# Altium footprint library 1_to_5_Pin.PcbLib: 133 footprints (part 7 of 9)
Each footprint in its own frame and in the unit in brackets; x right, y up, seen from the top. Pads: shape width x height; smd on the part's side, far side on the other; paste and mask are expansions set on the pad; w line width, h text height; cw(c..) or ccw(c..) is an arc to the next point about the centre after c.
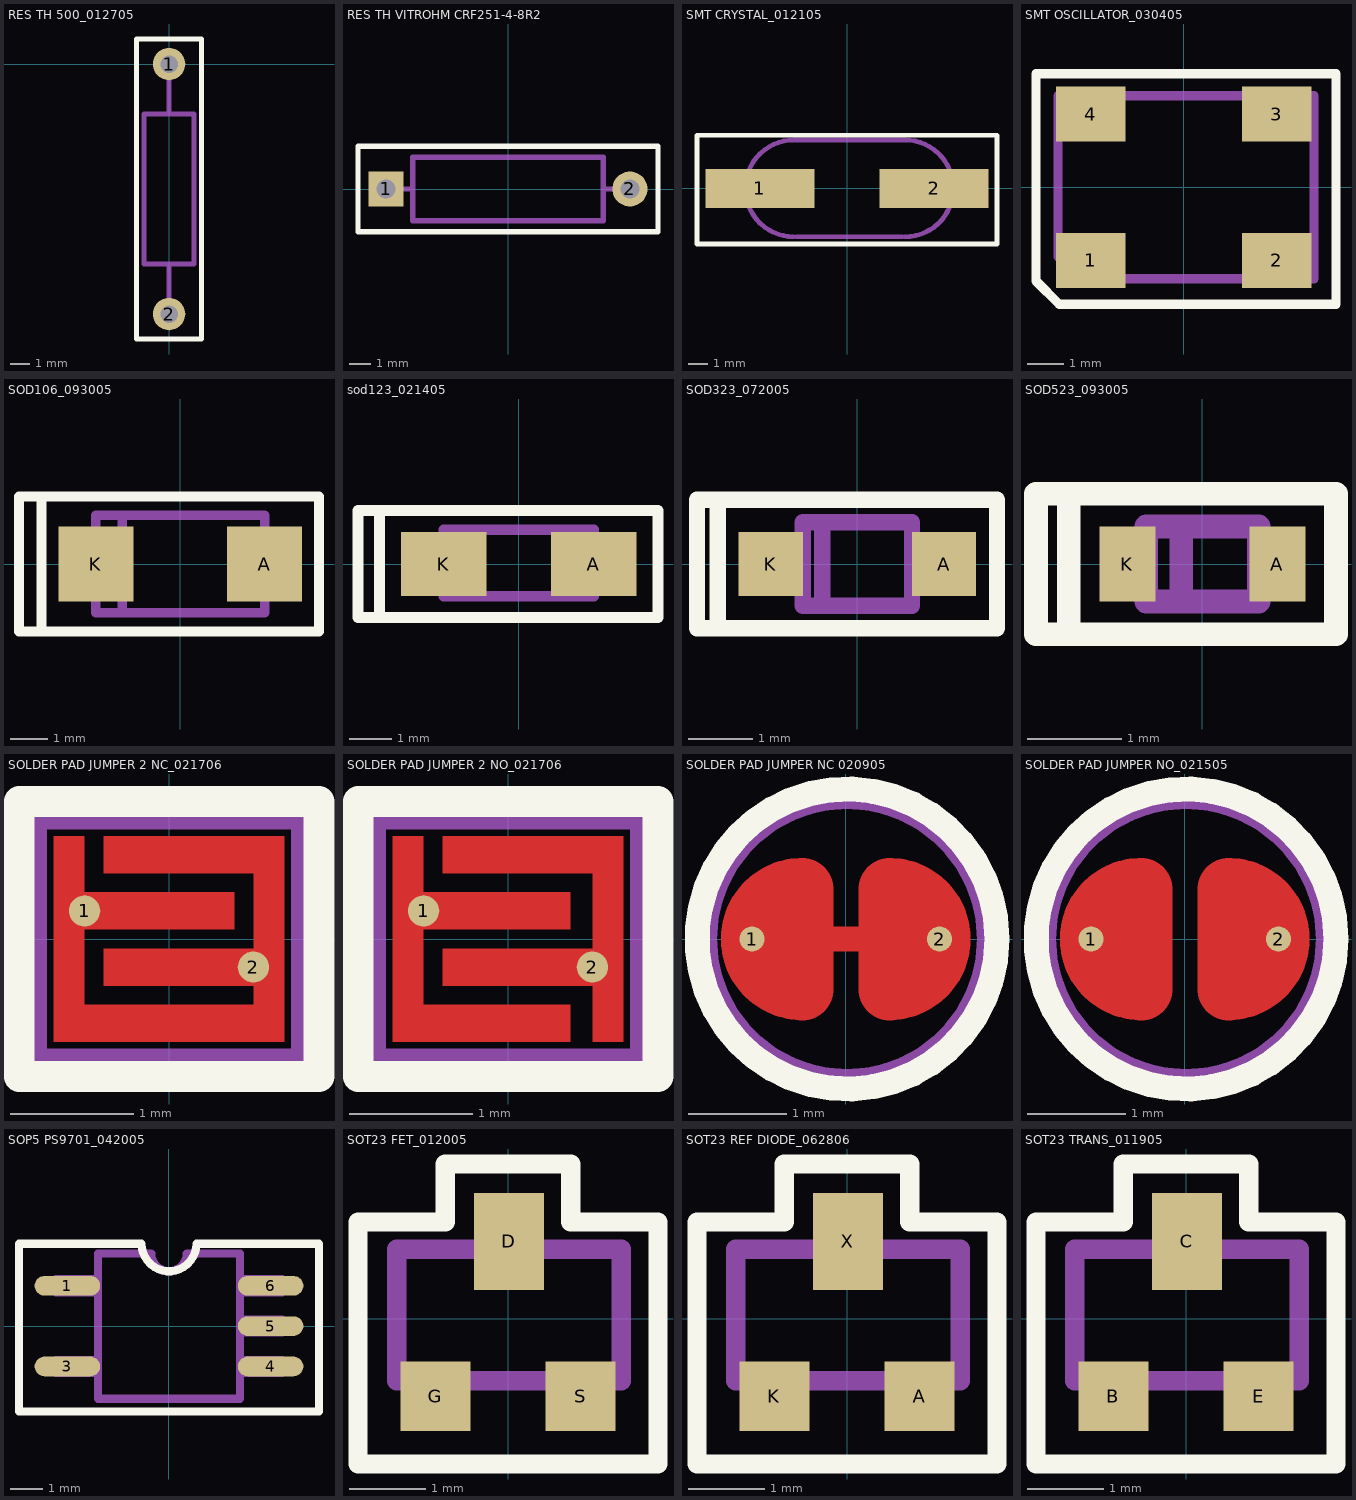
[diagram p6: the footprints below, top view; thin cyan lines are the x and y axes]

## RES TH 500_012705 [mil] "TH"
height 100
pads (2):
  round 65 hole 35: 1(0,0) 2(0,-500)
Top Overlay:
  lines w10: -65,-550 65,-550 65,50 0,50 -65,50 -65,-550
Assembly Outline:
  lines w10: 0,-500 0,-400 ; 0,-100 0,0 ; -50,-400 50,-400 50,-250 50,-100 -50,-100 -50,-400
Assembly Designator:
  text ".Designator" at -15,-219 h40
Assembly Comment:
  text ".Comment" at -108,-108 h40

## RES TH VITROHM CRF251-4-8R2 [mil] "TH"
height 118.11
pads (2):
  rect 65x65 hole 35: 1(-226.38,0)
  round 65 hole 35: 2(226.38,0)
Top Overlay:
  lines w10: -278.54,-79.72 0,-79.72 278.54,-79.72 278.54,0 278.54,79.72 0,79.72 -278.54,79.72 -278.54,0 -278.54,-79.72
Assembly Outline:
  lines w10: -226.38,0 -177.17,0 ; 0,59.06 177.17,59.06 177.17,0 ; 17.72,59.06 -177.17,59.06 -177.17,0 ; 226.38,0 177.17,0 ; -177.17,-59.05 0,-59.05 ; -177.17,-59.05 -177.17,0 ; -177.17,-59.05 0,-59.05 ; -177.17,-59.05 -177.17,0 ; 0,-59.05 177.17,-59.05 177.17,0
Assembly Designator:
  text ".Designator" at -53.15,-14.76 h40
Assembly Comment:
  text ".Comment" at -177.17,-132.87 h40

## SMT CRYSTAL_012105 [mil] "SMT"
height 160
pads (2):
  rect 225x80 smd: 1(-180,0) 2(180,0)
Top Overlay:
  lines w10: -310,-115 -310,110 310,110 310,-115 -310,-115
Assembly Outline:
  lines w10: -208,-25 -240,-25 -240,30 -206,30 ; -110,-100 cw(c-110,0) -110,100 120,100 cw(c120,0) 120,-100 ; -105,-100 115,-100 ; 216,30 250,30 250,-25 217,-25
Assembly Designator:
  text ".Designator" at -65,40 h40
Assembly Comment:
  text ".Comment" at -180,-20 h40

## SMT OSCILLATOR_030405 [mm] "SMT"
height 2.54
pads (4):
  rect 1.9x1.5 smd: 1(-2.54,-2) 2(2.54,-2) 3(2.54,2) 4(-2.54,2)
Top Overlay:
  lines w0.254: -4.04,-2.564 -4.04,3.1 4.16,3.1 4.16,-3.2 -3.404,-3.2 -4.04,-2.564
Assembly Outline:
  lines w0.254: -3.44,-1.894 -3.44,2.5 3.56,2.5 3.56,-2.5 -2.834,-2.5 -3.44,-1.894
Assembly Designator:
  text ".Designator" at -1.016,-0.381 h1.02
Assembly Comment:
  text ".Comment" at -2.794,-1.778 h1.02

## SOD106_093005 [mm] "SMT"
height 2
pads (2):
  rect 2x2 smd: A(2.25,0) K(-2.25,0)
Top Overlay:
  lines w0.254: -3.7,-1.8 -4.3,-1.8 -4.3,1.8 -3.7,1.8 ; -3.7,-1.8 -3.7,0 -3.7,1.8 ; -3.7,-1.8 0,-1.8 3.7,-1.8 3.7,0 3.7,1.8 0,1.8 -3.7,1.8
Assembly Outline:
  lines w0.254: -1.55,1.3 -1.55,-1.3 -1.05,-1.3 ; 2.25,0 2.25,1.3 ; 2.25,1.3 2.25,-1.3 -2.25,-1.3 -2.25,1.3 2.25,1.3
Assembly Designator:
  text ".Designator" at -0.55,-0.4 h1.02
Assembly Comment:
  text ".Comment" at -2.25,-3.3 h1.02

## sod123_021405 [mil] "SMT"
height 50
pads (2):
  rect 80x60 smd: A(70,0) K(-70,0)
Top Overlay:
  lines w10: -130,-50 -130,50 ; -150,-50 40,-50 130,-50 130,50 40,50 -150,50 -150,-50
Assembly Outline:
  lines w10: -40,-30 -40,32 ; -70,-30 70,-30 70,32 -70,32 -70,-30
Assembly Designator:
  text ".Designator" at -105,-15 h40
Assembly Comment:
  text ".Comment" at -117,-82 h40

## SOD323_072005 [mm] "SMT"
height 1.16
pads (2):
  rect 1x1 smd: A(1.35,0) K(-1.35,0)
Top Overlay:
  lines w0.254: -2.175,-1 0,-1 2.175,-1 2.175,0 2.175,1 0,1 -2.175,1 ; -2.175,-1 -2.175,0 -2.175,1 ; -2.175,-1 -2.5,-1 -2.5,1 -2.175,1
Assembly Outline:
  lines w0.254: -0.85,-0.2 -1.35,-0.2 -1.35,0 -1.35,0.2 -0.85,0.2 ; -0.55,-0.65 -0.55,0.65 ; 0,-0.65 -0.85,-0.65 ; 0.85,-0.2 1.35,-0.2 1.35,0 1.35,0.2 0.85,0.2 ; -0.85,-0.65 0.85,-0.65 0.85,0.65 -0.85,0.65 -0.85,-0.65
Assembly Designator:
  text ".Designator" at -0.975,1.325 h1.02
Assembly Comment:
  text ".Comment" at -3,-2.275 h1.02

## SOD523_093005 [mm] "SMT"
height 0.6
pads (2):
  rect 0.6x0.8 smd: A(0.8,0) K(-0.8,0)
Top Overlay:
  lines w0.254: -1.425,-0.75 -1.775,-0.75 -1.775,0.75 -1.425,0.75 ; -1.425,-0.75 -1.425,0 -1.425,0.75 ; -1.425,-0.75 0,-0.75 1.425,-0.75 1.425,0 1.425,0.75 0,0.75 -1.425,0.75
Assembly Outline:
  lines w0.254: -0.225,-0.4 -0.225,0.4 ; 0.6,0 0.8,0 0.8,0.15 ; -0.8,0.15 -0.8,-0.15 -0.6,-0.15 -0.6,0.15 -0.8,0.15 ; -0.8,0.15 -0.8,0 -0.6,0 -0.6,0.4 ; -0.6,0.4 -0.6,-0.4 0.6,-0.4 0.6,0.4 -0.6,0.4 ; 0.8,0.15 0.8,-0.15 0.6,-0.15 0.6,0.15 0.8,0.15
Assembly Designator:
  text ".Designator" at -0.95,1.15 h1.02
Assembly Comment:
  text ".Comment" at -2.95,-2.1 h1.02

## SOLDER PAD JUMPER 2 NC_021706 [mil] "FEATURE SMT PCB"
pads (2):
  round 10 smd mask+2: 1(-27,9) 2(27,-9)
Top Layer:
  region: 37,33 27,33 27,-33 37,-33
  rectangle: -37,-33 -27,33
  rectangle: -21,21 33,33
  rectangle: -33,-33 37,-21
  rectangle: -21,-15 33,-3
  rectangle: -33,3 21,15
Top Overlay:
  lines w10: -48,-44 0,-44 48,-44 48,0 48,44 0,44 -48,44 -48,0 -48,-44
Top Solder:
  circle w50: c0,0 r24
Assembly Outline:
  lines w10: -44,-40 0,-40 44,-40 44,0 44,40 0,40 -44,40 -44,0 -44,-40
Assembly Designator:
  text ".Designator" at -30,-16 h40
Assembly Comment:
  text ".Comment" at -50,-102 h40

## SOLDER PAD JUMPER 2 NO_021706 [mil] "FEATURE SMT PCB"
pads (2):
  round 10 smd mask+2: 1(-27,9) 2(27,-9)
Top Layer:
  rectangle: -33,3 20,15
  rectangle: -21,-15 33,-3
  rectangle: -33,-33 20,-21
  rectangle: -21,21 33,33
  rectangle: -37,-33 -27,33
  region: 37,33 27,33 27,-33 37,-33
Top Overlay:
  lines w10: -48,-44 -48,0 -48,44 0,44 48,44 48,0 48,-44 0,-44 -48,-44
Top Solder:
  circle w50: c0,0 r24
Assembly Outline:
  lines w10: -44,-40 -44,0 -44,40 0,40 44,40 44,0 44,-40 0,-40 -44,-40
Assembly Designator:
  text ".Designator" at 0,116 h40
Assembly Comment:
  text ".Comment" at -54,-102 h40

## SOLDER PAD JUMPER NC 020905 [mil] "FEATURE SMT PCB"
pads (2):
  round 10 smd: 1(-37.5,0) 2(37.5,0)
Top Layer:
  lines w10: -17.5,0 17.5,0
  lines w25: -17.5,19 -17.5,-20 cw(c-17.5,0) -17.5,20 ; 17.5,19 17.5,-20 ccw(c17.5,0) 17.5,20
Top Overlay:
  circle w10: c0.5,0 r60
Top Solder:
  circle w50: c0,0 r25
Assembly Outline:
  circle w10: c0.5,0 r57
Assembly Designator:
  text ".Designator" at -50,75 h40
Assembly Comment:
  text ".Comment" at -80,-110 h40

## SOLDER PAD JUMPER NO_021505 [mil] "FEATURE SMT PCB"
pads (2):
  round 10 smd: 1(-37.5,0) 2(37.5,0)
Top Layer:
  lines w25: -17.5,19 -17.5,-20 cw(c-17.5,0) -17.5,20 ; 17.5,19 17.5,-20 ccw(c17.5,0) 17.5,20
Top Overlay:
  circle w10: c0.5,0 r60
Top Solder:
  circle w50: c0,0 r25
Assembly Outline:
  circle w10: c0.5,0 r57
Assembly Designator:
  text ".Designator" at -45,-15 h40
Assembly Comment:
  text ".Comment" at -65,-105 h40

## SOP5 PS9701_042005 [mil] "SMT"
height 60
pads (5):
  oval 80x24 smd: 1(-124.02,49.21) 3(-124.02,-49.21) 4(124.02,-49.21) 5(124.02,0) 6(124.02,49.21)
Top Overlay:
  lines w10: -183.07,-104.33 -183.07,100.39 -33.46,100.39 ccw(c0,100.39) 33.46,100.39 183.07,100.39 183.07,-104.33 -183.07,-104.33
Assembly Outline:
  lines w10: -86.61,-57.09 -137.8,-57.09 -137.8,-49.21 -137.8,-41.34 -86.61,-41.34 ; -86.61,41.34 -137.8,41.34 -137.8,49.21 -137.8,57.09 -86.61,57.09 ; 86.61,-57.09 137.8,-57.09 137.8,-49.21 137.8,-41.34 86.61,-41.34 ; 86.61,-7.87 137.8,-7.87 137.8,0 137.8,7.87 86.61,7.87 ; 86.61,41.34 137.8,41.34 137.8,49.21 137.8,57.09 86.61,57.09 ; -86.61,-88.58 -86.61,88.58 -21.65,88.58 ccw(c0,88.58) 21.65,88.58 86.61,88.58 86.61,-88.58 -86.61,-88.58
Assembly Designator:
  text ".Designator" at -50,-25 h40
Assembly Comment:
  text ".Comment" at -55,-160 h40

## SOT23 FET_012005 [mil] "SMT"
height 50
pads (3):
  rect 36x50 smd: D(0.5,40)
  rect 36x36 smd: G(-37.5,-40) S(37.5,-40)
Top Overlay:
  lines w10: -77.5,-75 77.5,-75 77.5,50 32.5,50 32.5,80 -14.5,80 -32.5,80 -32.5,50 -77.5,50 -77.5,-75
Assembly Outline:
  lines w10: -47.5,-32 -47.5,-48 -27.5,-48 -27.5,-32 ; -7.5,36 -7.5,54 8.5,54 8.5,36 ; 28.5,-32 28.5,-48 46.5,-48 46.5,-32 ; -57.5,-32 58.5,-32 58.5,36 -57.5,36 -57.5,-32
Assembly Designator:
  text ".Designator" at -31.5,-15.75 h40
Assembly Comment:
  text ".Comment" at -59.06,-125.98 h40

## SOT23 REF DIODE_062806 [mil] "SMT"
height 50
pads (3):
  rect 36x36 smd: A(37.5,-40) K(-37.5,-40)
  rect 36x50 smd: X(0.5,40)
Top Overlay:
  lines w10: -77.5,-75 77.5,-75 77.5,50 32.5,50 32.5,80 -14.5,80 -32.5,80 -32.5,50 -77.5,50 -77.5,-75
Assembly Outline:
  lines w10: -47.5,-32 -47.5,-48 -27.5,-48 -27.5,-32 ; -7.5,36 -7.5,54 8.5,54 8.5,36 ; 28.5,-32 28.5,-48 46.5,-48 46.5,-32 ; -57.5,-32 58.5,-32 58.5,36 -57.5,36 -57.5,-32
Assembly Designator:
  text ".Designator" at -31.5,-15.75 h40
Assembly Comment:
  text ".Comment" at -59.06,-125.98 h40

## SOT23 TRANS_011905 [mil] "SMT"
height 40
pads (3):
  rect 36x36 smd: B(-37.5,-40) E(37.5,-40)
  rect 36x50 smd: C(0.5,40)
Top Overlay:
  lines w10: -77.5,-75 -77.5,50 -32.5,50 -32.5,80 -14.5,80 32.5,80 32.5,50 77.5,50 77.5,-75 -77.5,-75
Assembly Outline:
  lines w10: -47.5,-32 -47.5,-48 -27.5,-48 -27.5,-32 ; -7.5,36 -7.5,54 8.5,54 8.5,36 ; 28.5,-32 28.5,-48 46.5,-48 46.5,-32 ; -57.5,-32 -57.5,36 58.5,36 58.5,-32 -57.5,-32
Assembly Designator:
  text ".Designator" at -45,-15 h40
Assembly Comment:
  text ".Comment" at -70,50 h40